# Altium integrated library BtPS-250.IntLib: 61 symbols
Pins are listed as number, name and electrical type; pins without a type are passive.

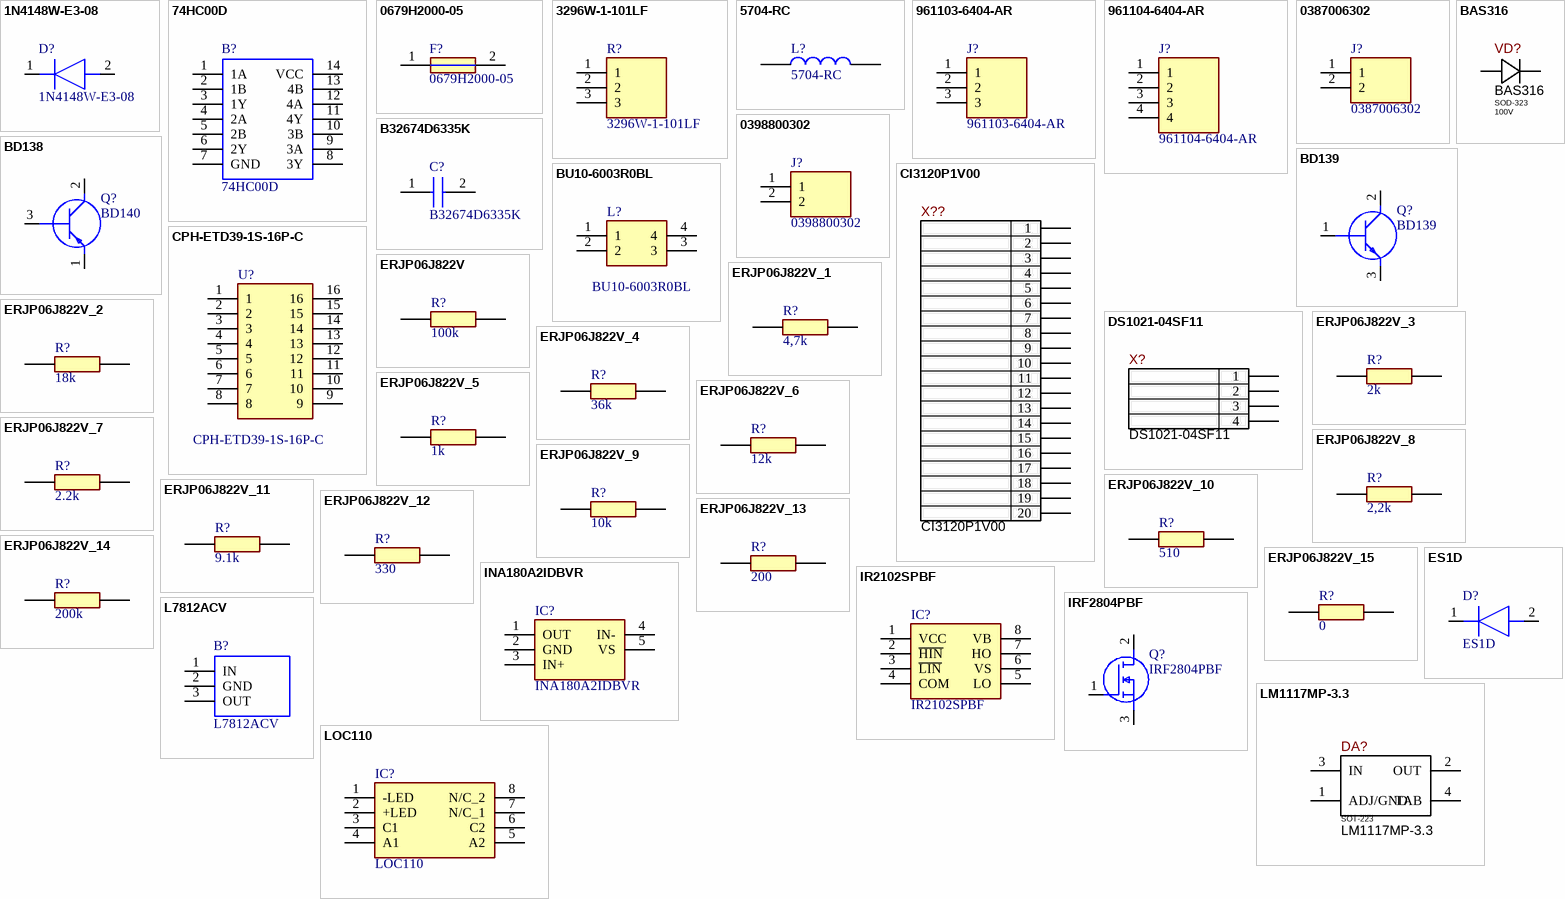
[diagram p0: symbols 1N4148W-E3-08 to LOC110]

## 1N4148W-E3-08
designator D?
Diode; Manufacturer_Name: Vishay; Datasheet Link: http://www.vishay.com/docs/85748/1n4148w.pdf; Height: 1.35mm; Manufacturer_Part_Number: 1N4148W-E3-08; Mouser Part Number: 78-1N4148W-E3-08; Mouser Price/Stock: https://www.mouser.co.uk/ProductDetail/Vishay-Semiconductors/1N4148W-E3-08?qs=bTzheeSci6TVjpxfjjRVMw%3D%3D; Arrow Part Number: 1N4148W-E3-08; Arrow Price/Stock: https://www.arrow.com/en/products/1n4148w-e3-08/vishay?region=nac
footprint SOD3716X135N
pins: 1 K, 2 A

## 74HC00D
designator B?
NEXPERIA - 74HC00D - NAND Gate, 74HC00, 2 Input, 5.2 mA, 2 V to 6 V, SOIC-14; Geometry.Height: 1.75mm; Manufacturer_Name: Nexperia; Manufacturer_Part_Number: 74HC00D; Mouser Part Number: 771-74HC00D; Mouser Price/Stock: https://www.mouser.co.uk/ProductDetail/Nexperia/74HC00D?qs=Q7xBXtx7xQgKEyQZmXe6mg%3D%3D; Arrow Part Number: *; Arrow Price/Stock: *; Mouser Testing Part Number: *; Mouser Testing Price/Stock: *; Datasheet Link: https://altium.componentsearchengine.com/Datasheets/2/74HC00D.pdf
footprint SOIC127P600X175-14N
pins: 1 1A, 2 1B, 3 1Y, 4 2A, 5 2B, 6 2Y, 7 GND, 8 3Y, 9 3A, 10 3B, 11 4Y, 12 4A, 13 4B, 14 VCC

## 0679H2000-05
designator F?
Fuse; Manufacturer_Name: Bel Circuit Protection; Datasheet Link: https://www.arrow.com/en/products/0679h2000-05/bel-group; Height: 2.79mm; Manufacturer_Part_Number: 0679H2000-05; Arrow Part Number: 0679H2000-05; Arrow Price/Stock: https://www.arrow.com/en/products/0679h2000-05/bel-group?region=nac
footprint FUSC6125X279N
pins: 1, 2

## 3296W-1-101LF
designator R?
Resistor; Manufacturer_Name: Bourns; Datasheet Link: https://www.bourns.com/pdfs/3296.pdf; Manufacturer_Part_Number: 3296W-1-101LF; Mouser Part Number: 652-3296W-1-101LF; Mouser Price/Stock: https://www.mouser.co.uk/ProductDetail/Bourns/3296W-1-101LF?qs=UcU9LKO1dwEefwKxVJG4Jw%3D%3D; Arrow Part Number: 3296W-1-101LF; Arrow Price/Stock: https://www.arrow.com/en/products/3296w-1-101lf/bourns?region=europe
footprint 3296W-1
pins: 1, 2, 3

## 5704-RC
designator L?
Inductor High Current Toroid 275uH/150uH 15% 1KHz 2A 0.24Ohm DCR RDL; Manufacturer_Name: Bourns; Geometry.Height: 22.225mm; Manufacturer_Part_Number: 5704-RC; Mouser Part Number: 542-5704-RC; Mouser Price/Stock: https://www.mouser.co.uk/ProductDetail/JW-Miller/5704-RC?qs=bN78%2FnoHSDjVEliEAq9T7g%3D%3D; Arrow Part Number: *; Arrow Price/Stock: *; Mouser Testing Part Number: *; Mouser Testing Price/Stock: *; Datasheet Link: https://www.bourns.com/docs/Product-Datasheets/5700_series.pdf
footprint 5704RC
pins: 1, 2

## 961103-6404-AR
designator J?
Connector; Manufacturer_Name: 3M; Datasheet Link: https://datasheet.datasheetarchive.com/originals/distributors/Datasheets-DGA21/2082015.pdf; Height: 10.5mm; Manufacturer_Part_Number: 961103-6404-AR; Mouser Part Number: 517-9611036404AR; Mouser Price/Stock: https://www.mouser.co.uk/ProductDetail/3M-Electronic-Solutions-Division/961103-6404-AR?qs=A%252BtsDZJT%252Bi8c%252BGQWaXFlLA%3D%3D
footprint HDRV3W64P0X254_1X3_762X250X1050P
pins: 1, 2, 3

## 961104-6404-AR
designator J?
Connector; Manufacturer_Name: 3M; Datasheet Link: https://componentsearchengine.com/Datasheets/1/961104-6404-AR.pdf; Height: 8mm; Manufacturer_Part_Number: 961104-6404-AR; Mouser Part Number: 517-9611046404AR; Mouser Price/Stock: https://www.mouser.co.uk/ProductDetail/3M-Electronic-Solutions-Division/961104-6404-AR?qs=A%252BtsDZJT%252Bi%2F2kLigPy7HDA%3D%3D
footprint HDRV4W64P0X254_1X4_1016X250X800P
pins: 1, 2, 3, 4

## 0387006302
designator J?
Connector; Manufacturer_Name: Molex; Datasheet Link: https://datasheet.datasheetarchive.com/originals/distributors/Datasheets-DGA23/1543392.pdf; Height: 13mm; Manufacturer_Part_Number: 0387006302; Mouser Part Number: N/A; Mouser Price/Stock: https://www.mouser.co.uk/ProductDetail/Molex/0387006302/?qs=PBcRNPEHKsoO9p6NPCT14g%3D%3D; Arrow Part Number: 0387006302; Arrow Price/Stock: https://www.arrow.com/en/products/0387006302/molex
footprint 0387006302
pins: 1, 2

## 0398800302
designator J?
Connector; Manufacturer_Name: Molex; Datasheet Link: https://www.molex.com/pdm_docs/sd/398800302_sd.pdf; Height: 10.3mm; Manufacturer_Part_Number: 0398800302; Mouser Part Number: N/A; Mouser Price/Stock: https://www.mouser.co.uk/ProductDetail/Molex/0398800302?qs=PBcRNPEHKsqSgs7Dx0mONg%3D%3D; Arrow Part Number: 0398800302; Arrow Price/Stock: https://www.arrow.com/en/products/0398800302/molex?region=nac
footprint 0398800302
pins: 1, 2

## B32674D6335K
designator C?
Capacitor; Manufacturer_Name: TDK; Datasheet Link: https://en.tdk.eu/inf/20/20/db/fc_2009/MKP_B32674_678.pdf; Height: 32mm; Manufacturer_Part_Number: B32674D6335K; Mouser Part Number: 871-B32674D6335K; Mouser Price/Stock: https://www.mouser.co.uk/ProductDetail/EPCOS-TDK/B32674D6335K?qs=IQR8xM2KsGjr5uKRT4Ngjw%3D%3D; Arrow Part Number: B32674D6335K; Arrow Price/Stock: https://www.arrow.com/en/products/b32674d6335k/epcos-tdk
footprint B32674D6335K
pins: 1, 2

## BAS316
designator VD?  Package: SOD-323  Voltage: 100V  (hidden comment: BAS316)
Diode Standard 100V 250mA, SOD-323/SC-76; Manufacturer: Nexperia USA Inc.; Ajax_1C_ID: 3460; Ajax_1C_PN: BAS316,115 100V 0.25A(DC) Nexperia diode SOD-323; Marking: A6; Standard Lead Time: 4 Weeks; Vf: 1.25V @ 150mA; Replacement: BAS316,115 BAS316,135; Ajax_1С_Status: Mass Production; Part Number: BAS316; Part Type: General; Component Type: SMD; Current: 250mA; Temperature Range: -65°C ~ 150°C; ComponentLink1URL: https://assets.nexperia.com/documents/data-sheet/BAS16_SER.pdf; Supplier 1: Digi-Key; Supplier Part Number 1: 1727-7370-2-ND; ComponentLink1Description: Datasheet; Price: 0,00753566
footprint SOD-323_MED
footprint SOD-323_HI
footprint SOD-323_LOW
pins: AN, CA

## BD138
designator Q?, comment BD140
Transistor BJT PNP; Manufacturer_Name: onsemi; Manufacturer_Part_Number: BD138; Datasheet Link: http://www.onsemi.com/pub/Collateral/BD136-D.PDF; Height: 3mm; Mouser Part Number: 863-BD138; Mouser Price/Stock: https://www.mouser.co.uk/ProductDetail/onsemi/BD138?qs=vNc2DXHODiJSpBHA4I4SSg%3D%3D
footprint TO229P300X760X1364-3P
pins: 1 E, 2 C, 3 B

## BD139
designator Q?
Transistor BJT NPN; Manufacturer_Name: STMicroelectronics; Datasheet Link: http://www.st.com/web/en/resource/technical/document/datasheet/CD00001225.pdf; Height: 2.9mm; Manufacturer_Part_Number: BD139; Mouser Part Number: 511-BD139; Mouser Price/Stock: https://www.mouser.co.uk/ProductDetail/STMicroelectronics/BD139?qs=ljbEvF4DwOPW%2FLxHSWYMMA%3D%3D; Arrow Part Number: BD139; Arrow Price/Stock: https://www.arrow.com/en/products/bd139/stmicroelectronics?region=europe
footprint TO254P290X760X1320-3P
pins: 1 B, 2 C, 3 E

## BU10-6003R0BL
designator L?
Inductor; Manufacturer_Name: COILCRAFT; Datasheet Link: https://componentsearchengine.com/Datasheets/1/BU10-6003R0BL.pdf; Height: 22.5mm; Manufacturer_Part_Number: BU10-6003R0BL; Mouser Part Number: 994-BU10-6003R0BL; Mouser Price/Stock: https://www.mouser.co.uk/ProductDetail/Coilcraft/BU10-6003R0BL?qs=ZYnrCdKdyec0p%252B8vTszPQw%3D%3D
footprint BU106003R0BL
pins: 1, 2, 3, 4

## CI3120P1V00
designator X??, comment Part Number: CI3120P1V00  (hidden comment: WH-20S)
WH Series 2.54mm Wire to Board Straight DIP Type Headers, 20 Pin; Manufacturer: CviLux; Ajax_1C_PN: NONE; Ajax_1С_Status: RND Only; Part Type: Wire-to-Board / Header; Component Type: PTH; Temperature Range: -25℃ ~ 85℃; ComponentLink1URL: https://www.cvilux.com/uploads/drawings/100/723/CI3102S.pdf; Replacement: NONE; Price: NONE; ComponentLink1Description: Datasheet
footprint WF-20S
pins: 1, 2, 3, 4, 5, 6, 7, 8, 9, 10, 11, 12, 13, 14, 15, 16, 17, 18, 19, 20

## CPH-ETD39-1S-16P-C
designator U?
Undefined or Miscellaneous; Manufacturer_Name: FERROXCUBE; Datasheet Link: http://www.farnell.com/datasheets/1935353.pdf; Height: 36.1mm; Manufacturer_Part_Number: CPH-ETD39-1S-16P-C
footprint DIPS3048W80P508L4460H3610Q16N
pins: 1, 2, 3, 4, 5, 6, 7, 8, 9, 10, 11, 12, 13, 14, 15, 16

## DS1021-04SF11
designator X?, comment Part Number: DS1021-04SF11  (hidden comment: PLS-4 (Part of PLS-40))
4 Pin 2.54mm Male Header, Vertical, 3mm and 6.1mm, PLS-4; Manufacturer: Connfly; Ajax_1C_ID: 1215; Ajax_1C_PN: PLS40, планки со штырьками; Ajax_1С_Status: Mass Production; Replacement: NONE; Part Type: Header / Male Pin / Single Row; Component Type: PTH; Temperature Range: -40°C ~ 105°C; ComponentLink1URL: \\altiumdb.ajax.local\files\Datasheet\Connectors\DS1021.pdf; Price: 0,001875; ComponentLink1Description: Datasheet
footprint DS1021-04S
pins: 1, 2, 3, 4

## ERJP06J822V
designator R?, comment 100k
Resistor; Height: 0.7mm
footprint RESC2013X65N
pins: 1, 2

## ERJP06J822V_1
designator R?, comment 4,7k
Resistor; Height: 0.7mm
footprint RESC2013X65N
pins: 1, 2

## ERJP06J822V_2
designator R?, comment 18k
Resistor; Height: 0.7mm
footprint RESC2013X65N
pins: 1, 2

## ERJP06J822V_3
designator R?, comment 2k
Resistor; Height: 0.7mm
footprint RESC2013X65N
pins: 1, 2

## ERJP06J822V_4
designator R?, comment 36k
Resistor; Height: 0.7mm
footprint RESC2013X65N
pins: 1, 2

## ERJP06J822V_5
designator R?, comment 1k
Resistor; Height: 0.7mm
footprint RESC2013X65N
pins: 1, 2

## ERJP06J822V_6
designator R?, comment 12k
Resistor; Height: 0.7mm
footprint RESC2013X65N
pins: 1, 2

## ERJP06J822V_7
designator R?, comment 2.2k
Resistor; Height: 0.7mm
footprint RESC2013X65N
pins: 1, 2

## ERJP06J822V_8
designator R?, comment 2,2k
Resistor; Height: 0.7mm
footprint RESC2013X65N
pins: 1, 2

## ERJP06J822V_9
designator R?, comment 10k
Resistor; Height: 0.7mm
footprint RESC2013X65N
pins: 1, 2

## ERJP06J822V_10
designator R?, comment 510
Resistor; Height: 0.7mm
footprint RESC2013X65N
pins: 1, 2

## ERJP06J822V_11
designator R?, comment 9.1k
Resistor; Height: 0.7mm
footprint RESC2013X65N
pins: 1, 2

## ERJP06J822V_12
designator R?, comment 330
Resistor; Height: 0.7mm
footprint RESC2013X65N
pins: 1, 2

## ERJP06J822V_13
designator R?, comment 200
Resistor; Height: 0.7mm
footprint RESC2013X65N
pins: 1, 2

## ERJP06J822V_14
designator R?, comment 200k
Resistor; Height: 0.7mm
footprint RESC2013X65N
pins: 1, 2

## ERJP06J822V_15
designator R?, comment 0
Resistor; Height: 0.7mm
footprint RESC2013X65N
pins: 1, 2

## ES1D
designator D?
Diode; Manufacturer_Name: SMC; Datasheet Link: https://4donline.ihs.com/images/VipMasterIC/IC/SMCD/SMCD-S-A0005425901/SMCD-S-A0005425901-1.pdf?hkey=833C7E3902CC3CD9C0453977398360A8; Height: 2.95mm; Manufacturer_Part_Number: ES1D
footprint DIOM5226X295N
pins: 1 K, 2 A

## INA180A2IDBVR
designator IC?
Integrated Circuit; Manufacturer_Name: Texas Instruments; Datasheet Link: http://www.ti.com/lit/ds/symlink/ina180.pdf; Height: 1.45mm; Manufacturer_Part_Number: INA180A2IDBVR; Mouser Part Number: 595-INA180A2IDBVR; Mouser Price/Stock: https://www.mouser.co.uk/ProductDetail/Texas-Instruments/INA180A2IDBVR?qs=5aG0NVq1C4wYcJfa99BoHg%3D%3D; Arrow Part Number: INA180A2IDBVR; Arrow Price/Stock: https://www.arrow.com/en/products/ina180a2idbvr/texas-instruments?region=nac
footprint SOT95P280X145-5N
pins: 1 OUT, 2 GND, 3 IN+, 4 IN-, 5 VS

## IR2102SPBF
designator IC?
Integrated Circuit; Manufacturer_Name: Infineon; Datasheet Link: https://www.infineon.com/cms/en/product/power/gate-driver-ics/?; Height: 1.75mm; Manufacturer_Part_Number: IR2102SPBF; Mouser Part Number: 942-IR2102SPBF; Mouser Price/Stock: https://www.mouser.co.uk/ProductDetail/Infineon-IR/IR2102SPBF?qs=dQmlx5f5cRJqfCRMLAcrGg%3D%3D; Arrow Part Number: IR2102SPBF; Arrow Price/Stock: https://www.arrow.com/en/products/ir2102spbf/infineon-technologies-ag?region=nac
footprint SOIC127P600X175-8N
pins: 1 VCC, 2 ~{HIN}, 3 ~{LIN}, 4 COM, 5 LO, 6 VS, 7 HO, 8 VB

## IRF2804PBF
designator Q?
MOSFET (N-Channel); Manufacturer_Name: Infineon; Datasheet Link: https://componentsearchengine.com/Datasheets/1/IRF2804PBF.pdf; Height: 4.82mm; Manufacturer_Part_Number: IRF2804PBF; Mouser Part Number: 942-IRF2804PBF; Mouser Price/Stock: https://www.mouser.co.uk/ProductDetail/Infineon-IR/IRF2804PBF?qs=2r01AXMCG3OqtrI77lWLsA%3D%3D; Arrow Part Number: IRF2804PBF; Arrow Price/Stock: https://www.arrow.com/en/products/irf2804pbf/infineon-technologies-ag
footprint TO254P482X1016X2192-3P
pins: 1 G, 2 D, 3 S

## L7812ACV
designator B?
TO220 voltage regulator,L7812ACV 12V 1A STMicroelectronics L7812ACV, Single Linear Voltage Regulator, 1A 12 V, 2%, 3-Pin TO-220; Geometry.Height: 4.6mm; Manufacturer_Name: STMicroelectronics; Manufacturer_Part_Number: L7812ACV; Mouser Part Number: 511-L7812ACV; Mouser Price/Stock: https://www.mouser.co.uk/ProductDetail/STMicroelectronics/L7812ACV?qs=bZskSr8d5Y9fWhq%2FyUrU3A%3D%3D; Arrow Part Number: L7812ACV; Arrow Price/Stock: https://www.arrow.com/en/products/l7812acv/stmicroelectronics?region=europe; Mouser Testing Part Number: *; Mouser Testing Price/Stock: *; Datasheet Link: http://www.st.com/web/en/resource/technical/document/datasheet/CD00000444.pdf
footprint TO270P460X1020X2008-3P
pins: 1 IN, 2 GND (power), 3 OUT

## LM1117MP-3.3
designator DA?  Package: SOT-223  Part Number: LM1117MP-3.3
Linear Voltage Regulator IC 1 Output 800mA SOT-223; Manufacturer: Texas Instruments; Ajax_1C_ID: 9463; Ajax_1C_PN: LM1117MP-3.3 Molded SOT-223, 6.50 x 3.56 x 1.6mm Body, 4 Lead, 2.3mm Pitch MP04A_N	1SPX; Standard Lead Time: 6 Weeks; Component Status: On Review; Replacement: NONE; GUID_1C: e0b887c0-e6df-11e6-82a6-d8cb8a9acc66; Part Type: Power / Linear Regulator; Component Type: SMD; Lifecycle: RND Only; Temperature Range: 0°C ~ 125°C; ComponentLink1URL: https://www.ti.com/lit/ds/symlink/lm1117.pdf; Supplier 1: Digi-Key; Supplier Part Number 1: LM1117MP-3.3/NOPBTR-ND; ComponentLink1Description: Datasheet
footprint SOT-223
pins: 1 ADJ/GND, 2 OUT, 3 IN, 4 TAB

## LOC110
designator IC?
Integrated Circuit; Manufacturer_Name: LITTELFUSE; Datasheet Link: http://www.ixysic.com/home/pdfs.nsf/0/2E7C7ED81A9497A385256A2C0068BE89/$file/LOC110.pdf; Height: 3.353mm; Manufacturer_Part_Number: LOC110; Mouser Part Number: 849-LOC110; Mouser Price/Stock: https://www.mouser.co.uk/ProductDetail/IXYS-Integrated-Circuits/LOC110?qs=lQlU%252BwB40guWe%2FeQ%2FzktPA%3D%3D; Arrow Part Number: LOC110; Arrow Price/Stock: https://www.arrow.com/en/products/loc110/ixys
footprint DIP762W53P254L965H335Q8N
pins: 1 -LED, 2 +LED, 3 C1, 4 A1, 5 A2, 6 C2, 7 N/C_1, 8 N/C_2

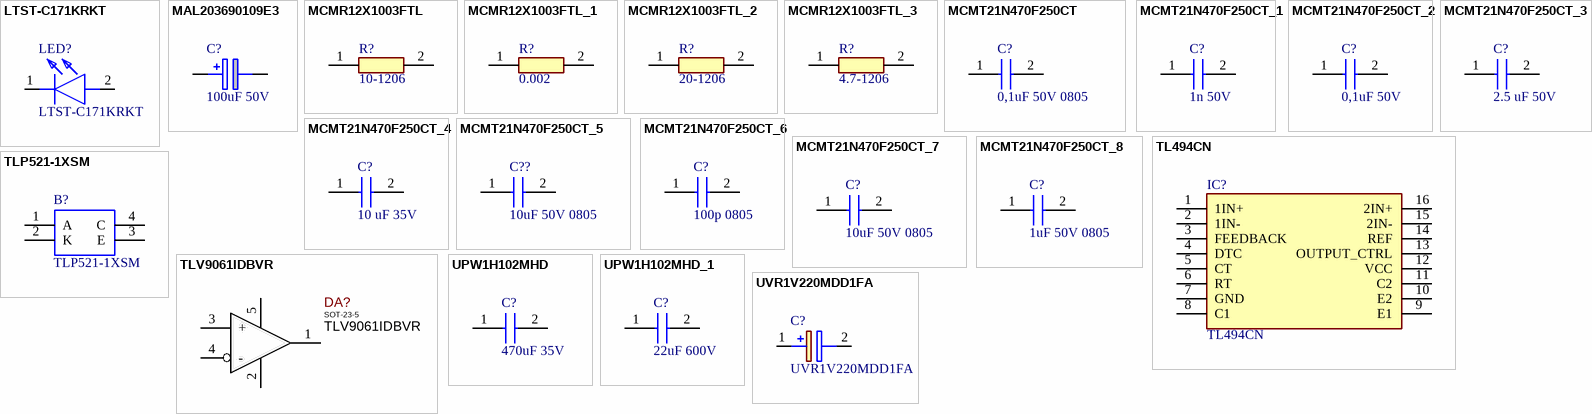
[diagram p1: symbols LTST-C171KRKT to UVR1V220MDD1FA]

## LTST-C171KRKT
designator LED?
LED; Manufacturer_Name: Lite-On; Datasheet Link: http://www.mouser.com/datasheet/2/239/Lite-On-LTST-C171KRKT-1175280.pdf; Height: 0.9mm; Manufacturer_Part_Number: LTST-C171KRKT; Mouser Part Number: 859-LTST-C171KRKT; Mouser Price/Stock: https://www.mouser.co.uk/ProductDetail/Lite-On/LTST-C171KRKT?qs=5XMAZBf2SiSTcAb1f5vDzw%3D%3D; Arrow Part Number: LTST-C171KRKT; Arrow Price/Stock: https://www.arrow.com/en/products/ltst-c171krkt/lite-on-technology?region=nac
footprint LEDM2012X90N
pins: 1 K, 2 A

## MAL203690109E3
designator C?, comment 100uF 50V
Aluminum Electrolytic Capacitors - Radial Leaded 100uF 50V 20% Radial; Manufacturer_Name: Vishay; Manufacturer_Part_Number: MAL203690109E3; Geometry.Height: 12mm; Datasheet Link: https://www.vishay.com/docs/28312/036rsp.pdf; Mouser Part Number: 594-2222-036-90109; Mouser Price/Stock: https://www.mouser.co.uk/ProductDetail/Vishay-BC-Components/MAL203690109E3?qs=4T%252B5yYZyZYdFWMOgqUZuiA%3D%3D; Arrow Part Number: MAL203690109E3; Arrow Price/Stock: https://www.arrow.com/en/products/mal203690109e3/vishay; Mouser Testing Part Number: *; Mouser Testing Price/Stock: *
footprint CAPPRD500W60D870H1200
pins: 1 +, 2 -

## MCMR12X1003FTL
designator R?, comment 10-1206
Resistor; Height: 0.75mm
footprint RESC3116X75N
pins: 1, 2

## MCMR12X1003FTL_1
designator R?, comment 0.002
Resistor; Height: 0.75mm
footprint RESC3116X75N
pins: 1, 2

## MCMR12X1003FTL_2
designator R?, comment 20-1206
Resistor; Height: 0.75mm
footprint RESC3116X75N
pins: 1, 2

## MCMR12X1003FTL_3
designator R?, comment 4.7-1206
Resistor; Height: 0.75mm
footprint RESC3116X75N
pins: 1, 2

## MCMT21N470F250CT
designator C?, comment 0,1uF 50V 0805
Capacitor; Height: 0.9mm
footprint CAPC2012X90N
pins: 1, 2

## MCMT21N470F250CT_1
designator C?, comment 1n 50V
Capacitor; Height: 0.9mm
footprint CAPC2012X90N
pins: 1, 2

## MCMT21N470F250CT_2
designator C?, comment 0,1uF 50V
Capacitor; Height: 0.9mm
footprint CAPC2012X90N
pins: 1, 2

## MCMT21N470F250CT_3
designator C?, comment 2.5 uF 50V
Capacitor; Height: 0.9mm
footprint CAPC2012X90N
pins: 1, 2

## MCMT21N470F250CT_4
designator C?, comment 10 uF 35V
Capacitor; Height: 0.9mm
footprint CAPC2012X90N
pins: 1, 2

## MCMT21N470F250CT_5
designator C??, comment 10uF 50V 0805
Capacitor; Height: 0.9mm
footprint CAPC2012X90N
pins: 1, 2

## MCMT21N470F250CT_6
designator C?, comment 100p 0805
Capacitor; Height: 0.9mm
footprint CAPC2012X90N
pins: 1, 2

## MCMT21N470F250CT_7
designator C?, comment 10uF 50V 0805
Capacitor; Height: 0.9mm
footprint CAPC2012X90N
pins: 1, 2

## MCMT21N470F250CT_8
designator C?, comment 1uF 50V 0805
Capacitor; Height: 0.9mm
footprint CAPC2012X90N
pins: 1, 2

## TL494CN
designator IC?
Integrated Circuit; Manufacturer_Name: Texas Instruments; Datasheet Link: http://www.ti.com/lit/gpn/tl494; Height: 5.08mm; Manufacturer_Part_Number: TL494CN; Mouser Part Number: 595-TL494CN; Mouser Price/Stock: https://www.mouser.co.uk/ProductDetail/Texas-Instruments/TL494CN?qs=N6WZOzgtpqWAYQVxthNGyw%3D%3D; Arrow Part Number: TL494CN; Arrow Price/Stock: https://www.arrow.com/en/products/tl494cn/texas-instruments?region=nac
footprint DIP794W53P254L1930H508Q16N
pins: 1 1IN+, 2 1IN-, 3 FEEDBACK, 4 DTC, 5 CT, 6 RT, 7 GND, 8 C1, 9 E1, 10 E2, 11 C2, 12 VCC, 13 OUTPUT_CTRL, 14 REF, 15 2IN-, 16 2IN+

## TLP521-1XSM
designator B?
Optocoupler; SMD; Channels:1; Out: transistor; Uinsul:5.3kV; Manufacturer_Name: Isocom; Geometry.Height: 4.6mm; Manufacturer_Part_Number: TLP521-1XSM; Mouser Part Number: *; Mouser Price/Stock: *; Arrow Part Number: *; Arrow Price/Stock: *; Mouser Testing Part Number: *; Mouser Testing Price/Stock: *; Datasheet Link: https://datasheet.lcsc.com/szlcsc/Isocom-Components-TLP521-1XSM_C83157.pdf
footprint SOP254P1016X460-4N
pins: 1 A, 2 K, 3 E, 4 C

## TLV9061IDBVR
designator DA?  Package: SOT-23-5  (hidden comment: TLV9061IDBVR)
10MHz, 0.5pA Bias, Rail-to-Rail Input/Output, 1.8V CMOS Operational Amplifiers, 1 Channels, SOT-23-5; Manufacturer: Texas Instruments; Ajax_1C_ID: 24284; Ajax_1C_PN: TLV9061IDBVR TI 1.8V-5.5V Operational Amplifier IC SOT23-5; Ajax_1С_Status: Mass Production; Standard Lead Time: 16 Weeks; Replacement: NONE; Part Number: TLV9061IDBVR; Part Type: Amplifier / OpAmp; Component Type: SMD; Temperature Range: -40°C ~ 125°C; ComponentLink1URL: https://www.ti.com/lit/ds/symlink/tlv9061.pdf; Supplier 1: Digi-Key; Supplier Part Number 1: 296-52284-2-ND; Price: 0,72409091; ComponentLink1Description: Datasheet
footprint SOT-23-5
pins: 1 OUT, 2 V-, 3 +, 4 -, 5 V+

## UPW1H102MHD
designator C?, comment 470uF 35V
Capacitor; Height: 27mm
footprint CAPPRD750W80D1625H2700
pins: 1 +, 2 -

## UPW1H102MHD_1
designator C?, comment 22uF 600V
Capacitor; Height: 27mm
footprint CAPPRD750W80D1625H2700
pins: 1 +, 2 -

## UVR1V220MDD1FA
designator C?
Capacitor Polarised; Manufacturer_Name: Nichicon; Datasheet Link: https://componentsearchengine.com/Datasheets/1/UVR1V220MDD1FA.pdf; Height: 12.5mm; Manufacturer_Part_Number: UVR1V220MDD1FA; Mouser Part Number: 647-UVR1V220MDD1FA; Mouser Price/Stock: https://www.mouser.co.uk/ProductDetail/Nichicon/UVR1V220MDD1FA/?qs=aEaV1LakhLZp9mEQuSYOqQ%3D%3D
footprint CAPPRD200W50D525H1250
pins: 1 +, 2 -